# Altium schematic symbol library INA139NA_250.SCHLIB: 1 symbol
Pins are listed as number, name and electrical type; pins without a type are passive.

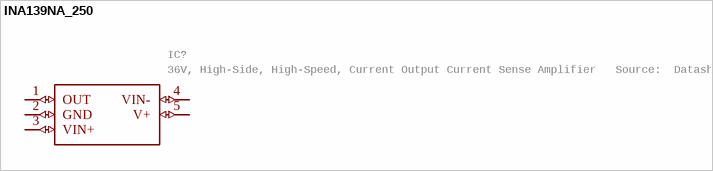
[diagram p0: symbol INA139NA_250]

## INA139NA_250
designator IC?, comment 36V, High-Side, High-Speed, Current Output Current Sense Amplifier   Source:  Datasheet
Manufacturer_Name: Texas Instruments; Manufacturer_Part_Number: INA139NA/250; GateName_1: G$1; SymbolName_1: INA139NA_250; LibraryName: INA139NA_250; DeviceSetName: INA139NA_250; Package: SOT95P280X145-5N; Mouser_Part_Number: 595-INA139NA/250; Mouser_Price-Stock: https://www.mouser.co.uk/ProductDetail/Texas-Instruments/INA139NA-250?qs=VBduBm9rCJQSYOixXF05Zw%3D%3D; Arrow_Part_Number: INA139NA/250; Arrow_Price-Stock: https://www.arrow.com/en/products/ina139na250/texas-instruments; Description: 36V, High-Side, High-Speed, Current Output Current Sense Amplifier; Height: 1.45mm
footprint SOT95P280X145-5N
pins: 1 OUT (io), 2 GND (io), 3 VIN+ (io), 4 VIN- (io), 5 V+ (io)